# Altium integrated library TMS-104-02-L-S.IntLib: 2 symbols
Pins are listed as number, name and electrical type; pins without a type are passive.

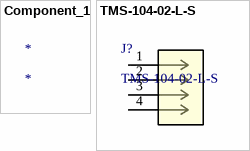
[diagram p0: symbols Component_1 to TMS-104-02-L-S]

## Component_1
designator *

## TMS-104-02-L-S
designator J?
No Description Available; Mfr_Name: Samtec Inc; Copyright: Copyright (C) 2022 Ultra Librarian. All rights reserved.; Manufacturer_Part_Number: TMS-104-02-L-S; RefDes: RefDes; Type: DEV
footprint CONN_TMS-104-XX-X-S_SAI
pins: 1, 2, 3, 4